# Altium footprint library J 集成块.PCBLIB: 89 footprints (part 3 of 6)
Each footprint in its own frame and in the unit in brackets; x right, y up, seen from the top. Pads: shape width x height; smd on the part's side, far side on the other; paste and mask are expansions set on the pad; w line width, h text height; cw(c..) or ccw(c..) is an arc to the next point about the centre after c.
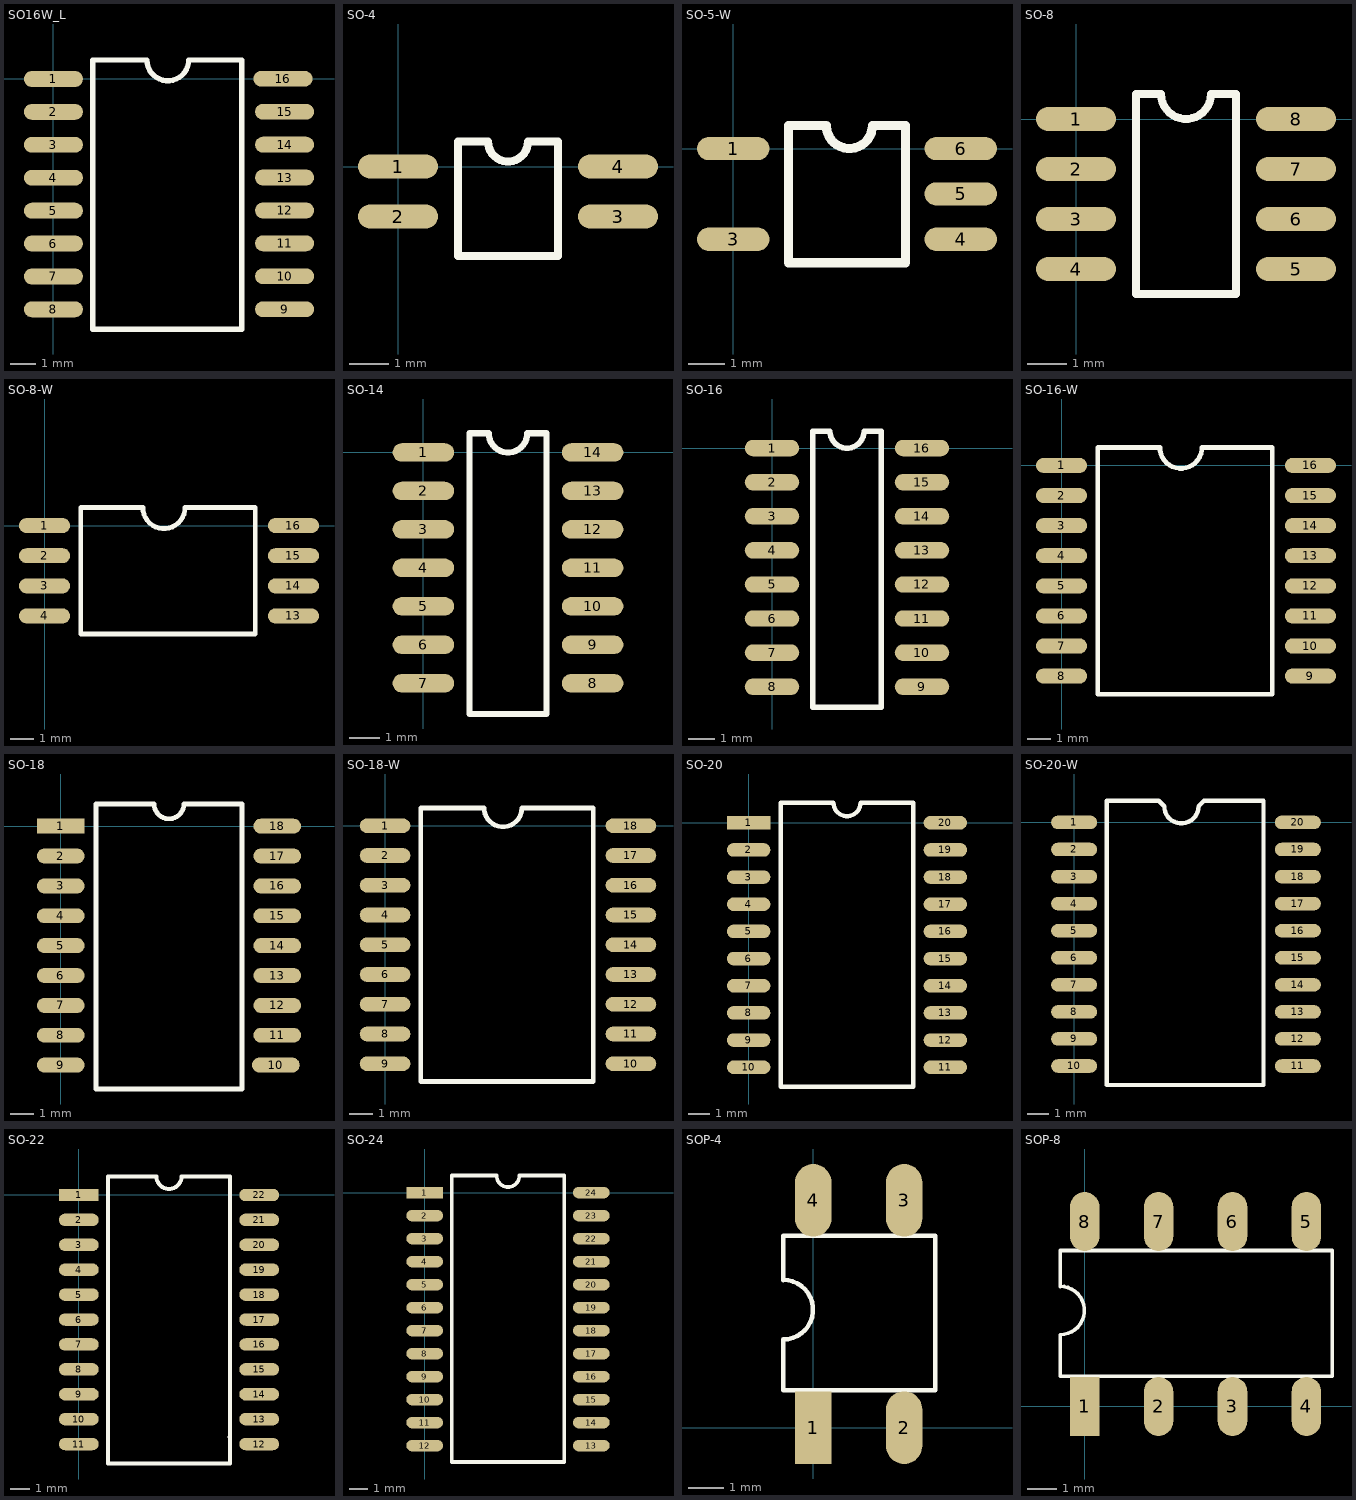
[diagram p2: the footprints below, top view; thin cyan lines are the x and y axes]

## SO16W_L [mil] "SO16-MIDDLE"
pads (16):
  oval 90x24 smd: 1(0,0) 2(0,-50) 3(0,-100) 4(0,-150) 5(0,-200) 6(0,-250) 7(0,-300) 8(0,-350) 9(351.28,-349.74) 10(351.28,-299.74) 11(351.28,-249.74) 12(351.28,-199.74) 13(351.28,-149.74) 14(351.28,-99.74) 15(351.28,-49.74) 16(348.69,0.26)
Top Overlay:
  lines w8: 60,-175 60,-380 ; 60,29 60,-380 ; 61,29 141.39,29 ; 142.12,29 ccw(c173.87,29) 205.61,29 286,29 286,-380 60,-380

## SO-4 [mil]
pads (4):
  oval 80x24 smd: 1(0,0) 2(0,-50) 3(220,-50) 4(220,0)
Top Overlay:
  lines w8: 130,25 cw(c110,25) 90,25 60,25 60,-89.37 160,-89.37 160,25 131,25

## SO-5-W [mm] "贴片-IC"
pads (5):
  oval 2x0.64 smd: 1(0,0) 3(0,-2.5) 4(6.27,-2.5) 5(6.27,-1.25) 6(6.27,0)
Top Overlay:
  lines w0.254: 1.524,-3.15 4.75,-3.15 4.75,0.635 3.835,0.635 cw(c3.2,0.635) 2.565,0.635 1.524,0.635 1.524,-3.15

## SO-8 [mil] "贴片-IC"
pads (8):
  oval 80x24 smd: 1(0,0) 2(0,-50) 3(0,-100) 4(0,-150) 5(220,-150) 6(220,-100) 7(220,-50) 8(220,0)
Top Overlay:
  lines w8: 60,-175 60,25 85,25 ccw(c110,25) 135,25 160,25 160,-175 60,-175

## SO-8-W [mil]
pads (8):
  oval 85x25 smd: 1(0,0) 2(0,-50) 3(0,-100) 4(0,-150) 13(413.39,-150) 14(413.39,-100) 15(413.39,-50) 16(413.39,0)
Top Overlay:
  lines w8: 162,30 60,30 60,-180 350,-180 350,30 234,30 ; 163.26,30 ccw(c198.26,30) 233.26,30

## SO-14 [mil]
pads (14):
  oval 80x24 smd: 1(0,0) 2(0,-50) 3(0,-100) 4(0,-150) 5(0,-200) 6(0,-250) 7(0,-300) 8(220,-300) 9(220,-250) 10(220,-200) 11(220,-150) 12(220,-100) 13(220,-50) 14(220,0)
Top Overlay:
  lines w8: 60,-175 60,-340 ; 60,-340 60,25 85,25 ccw(c110,25) 135,25 160,25 160,-340 60,-340

## SO-16 [mil] "贴片-IC"
pads (16):
  oval 80x24 smd: 1(0,0) 2(0,-50) 3(0,-100) 4(0,-150) 5(0,-200) 6(0,-250) 7(0,-300) 8(0,-350) 9(220,-350) 10(220,-300) 11(220,-250) 12(220,-200) 13(220,-150) 14(220,-100) 15(220,-50) 16(220,0)
Top Overlay:
  lines w8: 60,-175 60,-380 ; 60,-380 60,25 85,25 ccw(c110,25) 135,25 160,25 160,-380 60,-380

## SO-16-W [mil]
height 104.33
pads (16):
  oval 85x25 smd: 1(0,0) 2(0,-50) 3(0,-100) 4(0,-150) 5(0,-200) 6(0,-250) 7(0,-300) 8(0,-350) 9(413.39,-350) 10(413.39,-300) 11(413.39,-250) 12(413.39,-200) 13(413.39,-150) 14(413.39,-100) 15(413.39,-50) 16(413.39,0)
Top Overlay:
  lines w8: 60,-175 60,-380 ; 162,30 60,30 60,-380 ; 163.26,30 ccw(c198.26,30) 233.26,30 ; 234,30 350,30 350,-380 60,-380

## SO-18 [mil]
pads (18):
  rect 80x25 smd: 1(0,0)
  oval 80x25 smd: 2(0,-50) 3(0,-100) 4(0,-150) 5(0,-200) 6(0,-250) 7(0,-300) 8(0,-350) 9(0,-400) 10(360,-400) 11(362.2,-350) 12(362.2,-300) 13(362.2,-250) 14(362.2,-200) 15(362.2,-150) 16(362.2,-100) 17(362.2,-50) 18(362.2,0)
Top Overlay:
  lines w8: 303,-386 303.15,-385.85 ; 59.05,-440 303.15,-440 303.15,37.2 206.1,37.2 cw(c181.1,37.2) 156.1,37.2 59.05,37.2 59.05,-440

## SO-18-W [mil]
height 104.33
pads (18):
  oval 85x25 smd: 1(0,0) 2(0,-50) 3(0,-100) 4(0,-150) 5(0,-200) 6(0,-250) 7(0,-300) 8(0,-350) 9(0,-400) 10(413.39,-400) 11(413.39,-350) 12(413.39,-300) 13(413.39,-250) 14(413.39,-200) 15(413.39,-150) 16(413.39,-100) 17(413.39,-50) 18(413.39,0)
Top Overlay:
  lines w8: 60,-175 60,-430 ; 60,-430 350,-430 350,30 230,30 cw(c198.26,30) 166.52,30 60,30 60,-430

## SO-20 [mil]
pads (20):
  rect 80x25 smd: 1(0,0)
  oval 80x25 smd: 2(0,-50) 3(0,-100) 4(0,-150) 5(0,-200) 6(0,-250) 7(0,-300) 8(0,-350) 9(0,-400) 10(0,-450) 11(362.2,-450) 12(362.2,-400) 13(362.2,-350) 14(362.2,-300) 15(362.2,-250) 16(362.2,-200) 17(362.2,-150) 18(362.2,-100) 19(362.2,-50) 20(362.2,0)
Top Overlay:
  lines w8: 59,-486 303,-486 303.15,-485.85 303.15,37.2 206.1,37.2 cw(c181.1,37.2) 156.1,37.2 59.05,37.2 59.05,-486

## SO-20-W [mil]
height 104.33
pads (20):
  oval 85x25 smd: 1(0,0) 2(0,-50) 3(0,-100) 4(0,-150) 5(0,-200) 6(0,-250) 7(0,-300) 8(0,-350) 9(0,-400) 10(0,-450) 11(413.39,-450) 12(413.39,-400) 13(413.39,-350) 14(413.39,-300) 15(413.39,-250) 16(413.39,-200) 17(413.39,-150) 18(413.39,-100) 19(413.39,-50) 20(413.39,0)
Top Overlay:
  lines w8: 60,-430 60,-175 ; 60,-485 350,-485 350,40 240,40 230,30 cw(c198.26,30) 166.52,30 156.52,40 60,40 60,-485

## SO-22 [mil]
pads (22):
  rect 80x25 smd: 1(0,0)
  oval 80x25 smd: 2(0,-50) 3(0,-100) 4(0,-150) 5(0,-200) 6(0,-250) 7(0,-300) 8(0,-350) 9(0,-400) 10(0,-450) 11(0,-500) 12(362.2,-500) 13(362.2,-450) 14(362.2,-400) 15(362.2,-350) 16(362.2,-300) 17(362.2,-250) 18(362.2,-200) 19(362.2,-150) 20(362.2,-100) 21(362.2,-50) 22(362.2,0)
Top Overlay:
  lines w8: 59,-539.37 303,-539.37 ; 59.05,-539.37 59.05,37.2 156.1,37.2 ccw(c181.1,37.2) 206.1,37.2 303.15,37.2 303.15,-539.37 ; 303,-486 303.15,-485.85

## SO-24 [mil] "Small Outline, Plastic; 28 Leads; Body Width 7.5 mm; Pitch 1.27 mm"
height 104.33
pads (24):
  rect 80x25 smd: 1(0,0)
  oval 80x25 smd: 2(0,-50) 3(0,-100) 4(0,-150) 5(0,-200) 6(0,-250) 7(0,-300) 8(0,-350) 9(0,-400) 10(0,-450) 11(0,-500) 12(0,-550) 13(362.2,-550) 14(362.2,-500) 15(362.2,-450) 16(362.2,-400) 17(362.2,-350) 18(362.2,-300) 19(362.2,-250) 20(362.2,-200) 21(362.2,-150) 22(362.2,-100) 23(362.2,-50) 24(362.2,0)
Top Overlay:
  lines w8: 302.17,-585.63 59.05,-585.63 59.05,37.2 156.1,37.2 ccw(c181.1,37.2) 206.1,37.2 303.15,37.2 303.15,-585.63

## SOP-4 [mil]
height 104.33
pads (4):
  rect 40x80 smd: 1(0,0)
  oval 40x80 smd: 2(100,0) 3(100,250) 4(0,250)
Top Overlay:
  lines w5: -33,162 -33,211 134,211 134,41 -33,41 -33,97 ccw(c-33,129.76) -33,162.51

## SOP-8 [mil] "贴片光耦"
pads (8):
  rect 40x80 smd: 1(0,0)
  oval 40x80 smd: 2(100,0) 3(200,0) 4(300,0) 5(300,250) 6(200,250) 7(100,250) 8(0,250)
Top Overlay:
  lines w5: -33,162 -33,211 335,211 335,41 -33,41 -33,97 ccw(c-33,129.76) -33,162.51